# Altium footprint library PCB1.PcbLib: 34 footprints (part 1 of 3)
Each footprint in its own frame and in the unit in brackets; x right, y up, seen from the top. Pads: shape width x height; smd on the part's side, far side on the other; paste and mask are expansions set on the pad; w line width, h text height; cw(c..) or ccw(c..) is an arc to the next point about the centre after c.
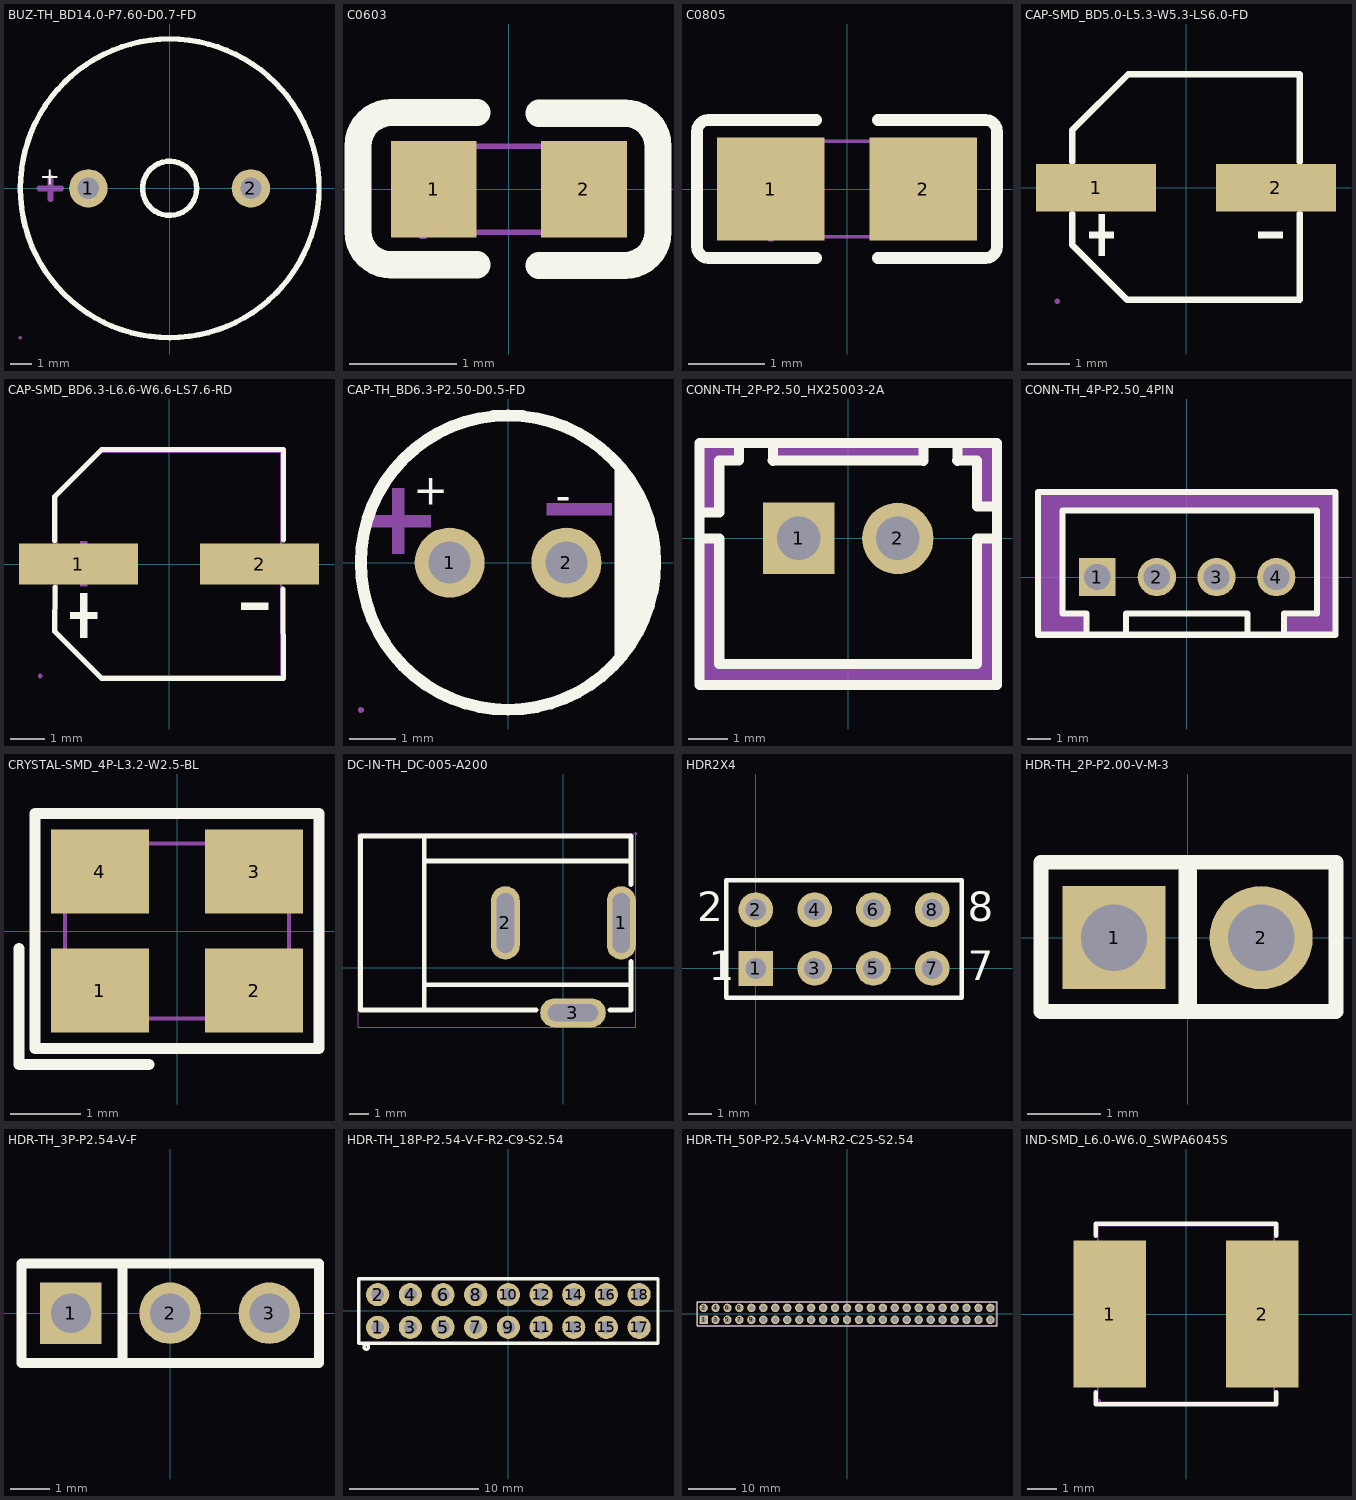
[diagram p0: the footprints below, top view; thin cyan lines are the x and y axes]

## BUZ-TH_BD14.0-P7.60-D0.7-FD [mm]
pads (2):
  round 1.8 hole 1: 1(-3.81,0) 2(3.81,0)
Top Overlay:
  circle w0.254: c0,0 r7
  circle w0.254: c0,0 r1.27
  text "+" at -6.096,0.165 h0.83
Mechanical 6:
  region: -5.715,-0.508 -5.715,-0.422 -5.461,-0.422 -5.461,-0.508 -5.461,-0.561 -5.535,-0.635 -5.64,-0.635 -5.715,-0.561 -5.715,-0.508
  region: -5.715,-0.422 -5.715,0.508 -5.715,0.561 -5.64,0.635 -5.535,0.635 -5.461,0.561 -5.461,0.508 -5.461,-0.422
  region: -6.096,0.127 -5.08,0.127 -5.027,0.127 -4.953,0.053 -4.953,-0.053 -5.027,-0.127 -5.08,-0.127 -6.096,-0.127 -6.149,-0.127 -6.223,-0.053 -6.223,0.053 -6.149,0.127 -6.096,0.127
  region: -5.715,-0.422 -5.334,-0.422
  region: -5.715,-0.422 -5.588,-0.422
Mechanical 15:
  region: -6.94,-7 -6.94,-6.975 -6.975,-6.94 -7.025,-6.94 -7.06,-6.975 -7.06,-7 -7.06,-7.025 -7.025,-7.06 -6.975,-7.06 -6.94,-7.025 -6.94,-7
  region: -3.46,0 -3.46,0.07 -3.513,0.198 -3.612,0.297 -3.741,0.35 -3.88,0.35 -4.008,0.297 -4.107,0.198 -4.16,0.07 -4.16,0 -4.16,-0.07 -4.107,-0.198 -4.008,-0.297 -3.88,-0.35 -3.741,-0.35 -3.612,-0.297 -3.513,-0.198 -3.46,-0.07 -3.46,0
  region: 4.16,0 4.16,0.07 4.107,0.198 4.008,0.297 3.88,0.35 3.741,0.35 3.612,0.297 3.513,0.198 3.46,0.07 3.46,0 3.46,-0.07 3.513,-0.198 3.612,-0.297 3.741,-0.35 3.88,-0.35 4.008,-0.297 4.107,-0.198 4.16,-0.07 4.16,0
  lines w0.051: -7,0 cw(c0,0) 7,0 cw(c0,0) -7,0

## C0603 [mm]
pads (2):
  rect 0.8x0.9 smd: 1(-0.7,0) 2(0.7,0)
Top Overlay:
  lines w0.254: -0.296,-0.704 -1.096,-0.704 cw(c-1.096,-0.394) -1.406,-0.394 -1.405,0.406 cw(c-1.096,0.406) -1.096,0.715 -0.296,0.715 ; 0.28,-0.71 1.08,-0.71 ccw(c1.08,-0.4) 1.39,-0.4 1.39,0.4 ccw(c1.08,0.4) 1.08,0.71 0.28,0.71
Mechanical 15:
  region: -0.86,-0.4 -0.86,-0.425 -0.825,-0.46 -0.775,-0.46 -0.74,-0.425 -0.74,-0.4 -0.74,-0.375 -0.775,-0.34 -0.825,-0.34 -0.86,-0.375 -0.86,-0.4
  region: -0.8,-0.4 -0.8,0.4 -0.5,0.4 -0.5,-0.4
  region: 0.8,-0.4 0.8,0.4 0.5,0.4 0.5,-0.4
  lines w0.051: -0.8,-0.4 -0.8,0.4 0.8,0.4 0.8,-0.4 -0.8,-0.4

## C0805 [mm]
pads (2):
  rect 1.41x1.35 smd paste-100 mask+0.051: 1(-1,0) 2(1,0)
Top Overlay:
  lines w0.152: -0.401,-0.904 -1.811,-0.904 cw(c-1.811,-0.751) -1.964,-0.751 -1.964,0.751 cw(c-1.811,0.751) -1.811,0.904 -0.401,0.904 ; 0.401,-0.904 1.811,-0.904 ccw(c1.811,-0.751) 1.964,-0.751 1.964,0.751 ccw(c1.811,0.751) 1.811,0.904 0.401,0.904
Top Paste:
  region: 0.475,-0.62 0.475,-0.2 0.92,-0.2 0.92,0.25 0.48,0.25 0.475,0.66 0.525,0.71 1.675,0.71 1.725,0.66 1.725,-0.62 1.675,-0.67 0.525,-0.67
  region: -1.675,-0.62 -1.675,0.66 -1.625,0.71 -0.475,0.71 -0.425,0.66 -0.42,0.25 -0.87,0.25 -0.87,-0.2 -0.43,-0.2 -0.425,-0.62 -0.475,-0.67 -1.625,-0.67
Mechanical 15:
  region: 1,0.625 1,-0.625 0.5,-0.625 0.5,0.625
  region: -1,-0.625 -1,0.625 -0.5,0.625 -0.5,-0.625
  region: -1,-0.565 -1.025,-0.565 -1.06,-0.6 -1.06,-0.65 -1.025,-0.685 -1,-0.685 -0.975,-0.685 -0.94,-0.65 -0.94,-0.6 -0.975,-0.565 -1,-0.565
  lines w0.051: -1,-0.625 1,-0.625 1,0.625 -1,0.625 -1,-0.625

## CAP-SMD_BD5.0-L5.3-W5.3-LS6.0-FD [mm]
pads (2):
  rect 2.8x1.1 smd: 1(-2.1,0) 2(2.1,0)
Top Overlay:
  region: -2.04,-0.624 -2.04,-1.584 -1.896,-1.584 -1.896,-0.624
  region: -2.256,-1.032 -2.256,-1.176 -1.68,-1.176 -1.68,-1.032
  region: 2.256,-1.032 2.256,-1.176 1.68,-1.176 1.68,-1.032
  lines w0.152: -2.659,-0.607 -2.659,-1.331 -1.372,-2.619 2.649,-2.619 2.649,-0.607 ; -2.659,0.607 -2.659,1.341 -1.349,2.649 2.659,2.649 2.659,0.607
Mechanical 6:
  region: -2.04,0.48 -2.04,-0.48 -1.896,-0.48 -1.896,0.48
  region: -2.256,0.072 -2.256,-0.072 -1.68,-0.072 -1.68,0.072
  region: 2.256,0.072 2.256,-0.072 1.68,-0.072 1.68,0.072
Mechanical 15:
  region: -2.94,-2.65 -2.94,-2.625 -2.975,-2.59 -3.025,-2.59 -3.06,-2.625 -3.06,-2.65 -3.06,-2.675 -3.025,-2.71 -2.975,-2.71 -2.94,-2.675 -2.94,-2.65
  region: 3,-0.32 0.9,-0.32 0.9,0.33 3,0.33
  region: -3,0.33 -0.9,0.33 -0.9,-0.32 -3,-0.32
  lines w0.051: -2.65,-1.35 -1.35,-2.65 2.65,-2.65 2.65,2.65 -1.35,2.65 -2.65,1.35 -2.65,-1.35

## CAP-SMD_BD6.3-L6.6-W6.6-LS7.6-RD [mm]
pads (2):
  rect 3.5x1.2 smd: 1(-2.67,0) 2(2.67,0)
Top Overlay:
  region: -2.614,-0.858 -2.614,-2.178 -2.416,-2.178 -2.416,-0.858
  region: -2.911,-1.419 -2.911,-1.617 -2.119,-1.617 -2.119,-1.419
  region: 2.921,-1.143 2.921,-1.341 2.129,-1.341 2.129,-1.143
  lines w0.152: -3.376,0.686 -3.376,1.98 -1.98,3.376 3.376,3.376 3.369,0.708 ; -3.362,-0.686 -3.376,-1.981 -1.981,-3.376 3.376,-3.376 3.356,-0.739
Mechanical 6:
  region: -2.41,-0.654 -2.41,0.666 -2.608,0.666 -2.608,-0.654
  region: -1.88,0.099 -3.2,0.099 -3.2,-0.099 -1.88,-0.099
  region: 2.848,0.099 2.848,-0.099 2.056,-0.099 2.056,0.099
Mechanical 15:
  region: 1.4,0.325 3.8,0.325 3.8,-0.325 1.4,-0.325
  region: -3.8,0.325 -1.4,0.325 -1.4,-0.325 -3.8,-0.325
  region: -3.8,-3.24 -3.825,-3.24 -3.86,-3.275 -3.86,-3.325 -3.825,-3.36 -3.8,-3.36 -3.775,-3.36 -3.74,-3.325 -3.74,-3.275 -3.775,-3.24 -3.8,-3.24
  lines w0.051: -3.3,-1.98 -3.3,1.98 -1.98,3.3 3.3,3.3 3.3,-3.3 -1.98,-3.3 -3.3,-1.98

## CAP-TH_BD6.3-P2.50-D0.5-FD [mm]
pads (2):
  round 1.5 hole 0.9 paste+0 mask+0.05: 1(-1.25,0) 2(1.25,0)
Top Overlay:
  circle w0.254: c0,0 r3.15
  region: 2.286,-2.286 2.285,2.17 2.286,2.169 2.395,2.06 2.592,1.82 2.764,1.563 2.91,1.29 3.028,1.004 3.118,0.708 3.178,0.404 3.209,0.096 3.209,-0.059 3.209,-0.213 3.178,-0.521 3.118,-0.825 3.028,-1.121 2.91,-1.407 2.764,-1.68 2.592,-1.937 2.395,-2.177 2.286,-2.286
  lines w0.254: -3.15,0 ccw(c0,0) 3.15,0 ccw(c0,0) -3.15,0
  text "-" at 1.016,1.109 h0.65
  text "+" at -2.032,1.236 h0.65
Mechanical 6:
  region: 0.826,1.27 2.222,1.27 2.222,1.016 0.826,1.016
  region: -2.476,0.191 -2.476,1.587 -2.222,1.587 -2.222,0.191
  region: -3.048,1.016 -1.651,1.016 -1.651,0.762 -3.048,0.762
Mechanical 15:
  region: -3.152,-3.091 -3.177,-3.091 -3.212,-3.126 -3.212,-3.176 -3.177,-3.211 -3.152,-3.211 -3.127,-3.211 -3.092,-3.176 -3.092,-3.126 -3.127,-3.091 -3.152,-3.091
  region: 1.25,0.25 1.2,0.25 1.108,0.212 1.038,0.142 1,0.05 1,-0.05 1.038,-0.142 1.108,-0.212 1.2,-0.25 1.25,-0.25 1.3,-0.25 1.392,-0.212 1.462,-0.142 1.5,-0.05 1.5,0.05 1.462,0.142 1.392,0.212 1.3,0.25 1.25,0.25
  region: -1.25,0.25 -1.3,0.25 -1.392,0.212 -1.462,0.142 -1.5,0.05 -1.5,-0.05 -1.462,-0.142 -1.392,-0.212 -1.3,-0.25 -1.25,-0.25 -1.2,-0.25 -1.108,-0.212 -1.038,-0.142 -1,-0.05 -1,0.05 -1.038,0.142 -1.108,0.212 -1.2,0.25 -1.25,0.25
  lines w0.051: -3.152,-0.001 ccw(c-0.002,-0.001) -0.002,-3.151 0.001,-3.151 ccw(c0.001,-0.005) 3.147,-0.005 3.147,0.005 ccw(c0,0.005) 0,3.152 -0.003,3.152 ccw(c-0.003,0.003) -3.152,0.003 -3.152,-0.001

## CONN-TH_2P-P2.50_HX25003-2A [mm]
pads (2):
  rect 1.8x1.8 hole 1.1 paste+0 mask+0.05: 1(-1.25,0)
  round 1.8 hole 1.1 paste+0 mask+0.05: 2(1.25,0)
Top Overlay:
  lines w0.254: -3.75,-2.416 -3.75,0 -3.25,0 -3.25,-2.416 -3.25,-3.167 3.25,-3.167 3.25,-2.344 3.25,0 3.75,0 3.75,-2.344 ; -3.75,-1.603 -3.75,0.648 -3.25,0.65 -3.25,1.958 -2.75,1.958 -2.75,2.408 ; -1.9,1.95 -1.9,2.4 ; -1.9,1.958 1.9,1.958 ; 1.9,1.95 1.9,2.4 ; 2.75,1.95 2.75,2.399 ; 2.75,1.958 3.25,1.958 3.25,0.8 3.75,0.8 3.75,-1.501 ; -3.75,-3.7 3.75,-3.7 3.75,2.4 -3.75,2.4 -3.75,-3.7
Mechanical 6:
  region: 2.75,1.95 3.242,1.95 3.25,1.958 3.25,0.8 3.75,0.8 3.75,2.4 2.751,2.4 2.75,2.399
  region: -2.75,1.9 -3.241,1.9 -3.25,1.908 -3.25,0.75 -3.75,0.75 -3.75,2.35 -2.751,2.35 -2.75,2.349
  region: 3.25,0 3.75,0 3.75,-3.7 -3.75,-3.7 -3.75,-0.05 -3.25,0 -3.25,-3.167 3.25,-3.167
  region: 1.9,2.4 1.9,1.9 -1.9,1.9 -1.9,2.4
Mechanical 15:
  region: 0.93,0.32 1.57,0.32 1.57,-0.32 0.93,-0.32
  region: -1.57,0.32 -0.93,0.32 -0.93,-0.32 -1.57,-0.32
  region: -3.75,-3.44 -3.775,-3.44 -3.81,-3.475 -3.81,-3.525 -3.775,-3.56 -3.75,-3.56 -3.725,-3.56 -3.69,-3.525 -3.69,-3.475 -3.725,-3.44 -3.75,-3.44
  lines w0.051: -3.75,-3.5 -3.75,2.4 3.75,2.4 3.75,-3.5 -3.75,-3.5

## CONN-TH_4P-P2.50_4PIN [mm]
pads (4):
  rect 1.524x1.6 hole 1.1: 1(-3.75,0)
  round 1.6 hole 1.1: 2(-1.25,0) 3(1.25,0) 4(3.75,0)
Top Overlay:
  lines w0.254: -4.191,-2.413 -4.191,-2.286 -4.191,-1.524 -5.207,-1.524 -5.207,2.794 5.461,2.794 5.461,-1.524 4.064,-1.524 4.064,-2.286 ; -2.54,-2.413 -2.54,-1.524 2.54,-1.524 2.54,-2.413 ; -6.223,-2.413 6.223,-2.413 6.223,3.556 -6.223,3.556 -6.223,-2.413
Mechanical 6:
  region: 4.064,-2.413 4.064,-1.651 5.334,-1.651 5.461,-1.524 5.461,2.794 -5.207,2.794 -5.207,-1.524 -4.191,-1.524 -4.191,-2.413 -6.223,-2.413 -6.223,3.556 6.223,3.556 6.223,-2.413
Mechanical 15:
  region: 3.43,0.32 4.07,0.32 4.07,-0.32 3.43,-0.32
  region: 0.93,0.32 1.57,0.32 1.57,-0.32 0.93,-0.32
  region: -1.57,0.32 -0.93,0.32 -0.93,-0.32 -1.57,-0.32
  region: -4.07,0.32 -3.43,0.32 -3.43,-0.32 -4.07,-0.32
  region: -6.25,-2.34 -6.275,-2.34 -6.31,-2.375 -6.31,-2.425 -6.275,-2.46 -6.25,-2.46 -6.225,-2.46 -6.19,-2.425 -6.19,-2.375 -6.225,-2.34 -6.25,-2.34
  lines w0.051: -6.25,-2.4 6.25,-2.4 6.25,3.5 -6.25,3.5 -6.25,-2.4

## CRYSTAL-SMD_4P-L3.2-W2.5-BL [mm]
pads (4):
  rect 1.4x1.2 smd: 1(-1.1,-0.85) 2(1.1,-0.85) 3(1.1,0.85) 4(-1.1,0.85)
Top Overlay:
  lines w0.152: -2.257,-0.25 -2.257,-1.907 -0.4,-1.907 ; -2.029,-1.678 2.029,-1.678 2.029,1.679 -2.029,1.679 -2.029,-1.678
Mechanical 6:
  circle w0.36: c-1.143,-0.889 r0.18
Mechanical 15:
  region: -1.5,-0.35 -0.6,-0.35 -0.6,-1.15 -1.5,-1.15
  region: 0.6,-0.35 1.5,-0.35 1.5,-1.15 0.6,-1.15
  region: 0.6,1.15 1.5,1.15 1.5,0.35 0.6,0.35
  region: -1.5,1.15 -0.6,1.15 -0.6,0.35 -1.5,0.35
  region: -1.6,-1.31 -1.575,-1.31 -1.54,-1.275 -1.54,-1.225 -1.575,-1.19 -1.6,-1.19 -1.625,-1.19 -1.66,-1.225 -1.66,-1.275 -1.625,-1.31 -1.6,-1.31
  lines w0.051: -1.6,-1.25 1.6,-1.25 1.6,1.25 -1.6,1.25 -1.6,-1.25

## DC-IN-TH_DC-005-A200 [mm]
pads (3):
  oval 1.5x3.8 hole 0.9 slot 3.1 at 90 deg: 1(3,2.325) 2(-3,2.325)
  oval 3.4x1.5 hole 0.9 slot 2.6 at 0 deg: 3(0.5,-2.325)
Top Overlay:
  lines w0.254: -7.2,-2.175 -7.2,6.825 ; -7.12,-0.874 3.5,-0.874 ; -7.12,5.525 3.5,5.525 ; -1.419,-2.175 -10.5,-2.175 -10.5,6.825 3.5,6.825 3.5,4.319 ; 2.42,-2.175 3.5,-2.175 3.5,0.332
Mechanical 15:
  region: -0.35,-1.965 1.35,-1.965 1.35,-2.685 -0.35,-2.685
  region: -2.639,3.425 -2.639,1.225 -3.36,1.225 -3.36,3.425
  region: 2.64,1.225 2.64,3.425 3.361,3.425 3.361,1.225
  region: 3.81,6.952 3.81,6.977 3.774,7.012 3.725,7.012 3.69,6.977 3.69,6.952 3.69,6.928 3.725,6.892 3.774,6.892 3.81,6.928 3.81,6.952
  lines w0.051: -10.627,-3.075 -10.627,6.952 3.75,6.952 3.75,-3.075 -10.627,-3.075

## HDR2X4 [mm] "Connector; Header; 4x2 Position"
pads (8):
  rect 1.5x1.5 hole 0.9: 1(0,0)
  round 1.5 hole 0.9: 2(0,2.54) 3(2.54,0) 4(2.54,2.54) 5(5.08,0) 6(5.08,2.54) 7(7.62,0) 8(7.62,2.54)
Top Overlay:
  lines w0.2: -1.27,-1.27 -1.27,3.81 8.89,3.81 8.89,-1.27 -1.27,-1.27
  text "8" at 9.144,2.032 h1.27
  text "7" at 9.144,-0.508 h1.27
  text "1" at -2.032,-0.508 h1.27
  text "2" at -2.54,2.032 h1.27

## HDR-TH_2P-P2.00-V-M-3 [mm]
pads (2):
  rect 1.4x1.4 hole 0.9: 1(-1,0)
  round 1.4 hole 0.9: 2(1,0)
Top Overlay:
  lines w0.203: -1.991,-1 -1.991,1.025 2.016,1.025 2.016,-1 -1.991,-1
  lines w0.254: 0,-0.889 0,0.889
Mechanical 15:
  region: 1.25,0 1.25,0.05 1.212,0.142 1.142,0.212 1.05,0.25 0.95,0.25 0.858,0.212 0.788,0.142 0.75,0.05 0.75,0 0.75,-0.05 0.788,-0.142 0.858,-0.212 0.95,-0.25 1.05,-0.25 1.142,-0.212 1.212,-0.142 1.25,-0.05 1.25,0
  region: -0.75,0 -0.75,0.05 -0.788,0.142 -0.858,0.212 -0.95,0.25 -1.05,0.25 -1.142,0.212 -1.212,0.142 -1.25,0.05 -1.25,0 -1.25,-0.05 -1.212,-0.142 -1.142,-0.212 -1.05,-0.25 -0.95,-0.25 -0.858,-0.212 -0.788,-0.142 -0.75,-0.05 -0.75,0
  region: -1.94,-1 -1.94,-0.975 -1.975,-0.94 -2.025,-0.94 -2.06,-0.975 -2.06,-1 -2.06,-1.025 -2.025,-1.06 -1.975,-1.06 -1.94,-1.025 -1.94,-1
  lines w0.051: -2,-1 2,-1 2,1 -2,1 -2,-1

## HDR-TH_3P-P2.54-V-F [mil]
pads (3):
  rect 62x62 hole 40.16: 1(-100,0)
  round 62 hole 40.16: 2(0,0) 3(100,0)
Top Overlay:
  lines w10: -48.09,-50 -48.09,50 ; -150,-50 -150,50 150,50 150,-50 -150,-50
Mechanical 15:
  region: 87.4,4.92 112.6,4.92 112.6,-4.92 87.4,-4.92
  region: -12.6,4.92 12.6,4.92 12.6,-4.92 -12.6,-4.92
  region: -112.6,4.92 -87.4,4.92 -87.4,-4.92 -112.6,-4.92
  region: -150,-51.58 -149.02,-51.58 -147.64,-50.19 -147.64,-48.23 -149.02,-46.85 -150,-46.85 -150.98,-46.85 -152.36,-48.23 -152.36,-50.19 -150.98,-51.58 -150,-51.58
  lines w2: -150,-49.21 150,-49.21 150,49.21 -150,49.21 -150,-49.21

## HDR-TH_18P-P2.54-V-F-R2-C9-S2.54 [mm]
pads (18):
  round 1.8 hole 1: 1(-10.16,-1.27) 2(-10.16,1.27) 3(-7.62,-1.27) 4(-7.62,1.27) 5(-5.08,-1.27) 6(-5.08,1.27) 7(-2.54,-1.27) 8(-2.54,1.27) 9(0,-1.27) 10(0,1.27) 11(2.54,-1.27) 12(2.54,1.27) 13(5.08,-1.27) 14(5.08,1.27) 15(7.62,-1.27) 16(7.62,1.27) 17(10.16,-1.27) 18(10.16,1.27)
Top Overlay:
  circle w0.254: c-11.049,-2.794 r0.18
  lines w0.254: -11.63,-2.5 11.63,-2.5 11.63,2.5 -11.63,2.5 -11.63,-2.5
Mechanical 15:
  region: 9.84,1.47 10.48,1.47 10.48,1.07 9.84,1.07
  region: 9.84,-1.07 10.48,-1.07 10.48,-1.47 9.84,-1.47
  region: 7.3,1.47 7.94,1.47 7.94,1.07 7.3,1.07
  region: 7.3,-1.07 7.94,-1.07 7.94,-1.47 7.3,-1.47
  region: 4.76,1.47 5.4,1.47 5.4,1.07 4.76,1.07
  region: 4.76,-1.07 5.4,-1.07 5.4,-1.47 4.76,-1.47
  region: 2.22,1.47 2.86,1.47 2.86,1.07 2.22,1.07
  region: 2.22,-1.07 2.86,-1.07 2.86,-1.47 2.22,-1.47
  region: -0.32,1.47 0.32,1.47 0.32,1.07 -0.32,1.07
  region: -0.32,-1.07 0.32,-1.07 0.32,-1.47 -0.32,-1.47
  region: -2.86,1.47 -2.22,1.47 -2.22,1.07 -2.86,1.07
  region: -2.86,-1.07 -2.22,-1.07 -2.22,-1.47 -2.86,-1.47
  region: -5.4,1.47 -4.76,1.47 -4.76,1.07 -5.4,1.07
  region: -5.4,-1.07 -4.76,-1.07 -4.76,-1.47 -5.4,-1.47
  region: -7.94,1.47 -7.3,1.47 -7.3,1.07 -7.94,1.07
  region: -7.94,-1.07 -7.3,-1.07 -7.3,-1.47 -7.94,-1.47
  region: -10.48,1.47 -9.84,1.47 -9.84,1.07 -10.48,1.07
  region: -10.48,-1.07 -9.84,-1.07 -9.84,-1.47 -10.48,-1.47
  region: -11.63,-2.44 -11.655,-2.44 -11.69,-2.475 -11.69,-2.525 -11.655,-2.56 -11.63,-2.56 -11.605,-2.56 -11.57,-2.525 -11.57,-2.475 -11.605,-2.44 -11.63,-2.44
  lines w0.051: -11.63,-2.5 11.63,-2.5 11.63,2.5 -11.63,2.5 -11.63,-2.5

## HDR-TH_50P-P2.54-V-M-R2-C25-S2.54 [mm]
pads (50):
  rect 1.8x1.8 hole 1.1: 1(-30.48,-1.27)
  round 1.8 hole 1.1: 2(-30.48,1.27) 3(-27.94,-1.27) 4(-27.94,1.27) 5(-25.4,-1.27) 6(-25.4,1.27) 7(-22.86,-1.27) 8(-22.86,1.27) 9(-20.32,-1.27) 10(-20.32,1.27) 11(-17.78,-1.27) 12(-17.78,1.27) 13(-15.24,-1.27) 14(-15.24,1.27) 15(-12.7,-1.27) 16(-12.7,1.27) 17(-10.16,-1.27) 18(-10.16,1.27) 19(-7.62,-1.27) 20(-7.62,1.27) 21(-5.08,-1.27) 22(-5.08,1.27) 23(-2.54,-1.27) 24(-2.54,1.27) 25(0,-1.27) 26(0,1.27) 27(2.54,-1.27) 28(2.54,1.27) 29(5.08,-1.27) 30(5.08,1.27) 31(7.62,-1.27) 32(7.62,1.27) 33(10.16,-1.27) 34(10.16,1.27) 35(12.7,-1.27) 36(12.7,1.27) 37(15.24,-1.27) 38(15.24,1.27) 39(17.78,-1.27) 40(17.78,1.27) 41(20.32,-1.27) 42(20.32,1.27) 43(22.86,-1.27) 44(22.86,1.27) 45(25.4,-1.27) 46(25.4,1.27) 47(27.94,-1.27) 48(27.94,1.27) 49(30.48,-1.27) 50(30.48,1.27)
Top Overlay:
  lines w0.254: -31.877,-2.54 -31.877,2.54 31.877,2.54 31.877,-2.54 -31.877,-2.54
Mechanical 15:
  drawing of 55 lines, arcs and shapes, not listed

## IND-SMD_L6.0-W6.0_SWPA6045S [mm]
pads (2):
  rect 2.474x5.02 smd: 1(-2.603,0) 2(2.603,0)
Top Overlay:
  lines w0.152: -3.076,-2.662 -3.076,-3.076 3.076,-3.076 3.076,-2.662 ; -3.076,2.662 -3.076,3.076 3.076,3.076 3.076,2.662
Mechanical 15:
  region: -3,2.45 -1.45,2.45 -1.45,-2.45 -3,-2.45
  region: 1.45,2.45 3,2.45 3,-2.45 1.45,-2.45
  region: -2.91,-2.97 -2.91,-2.945 -2.945,-2.91 -2.995,-2.91 -3.03,-2.945 -3.03,-2.97 -3.03,-2.995 -2.995,-3.03 -2.945,-3.03 -2.91,-2.995 -2.91,-2.97
  lines w0.051: -3,-3 3,-3 3,3 -3,3 -3,-3